# Altium footprint library MF-CAP.PcbLib: 8 footprints
Each footprint in its own frame and in the unit in brackets; x right, y up, seen from the top. Pads: shape width x height; smd on the part's side, far side on the other; paste and mask are expansions set on the pad; w line width, h text height; cw(c..) or ccw(c..) is an arc to the next point about the centre after c.
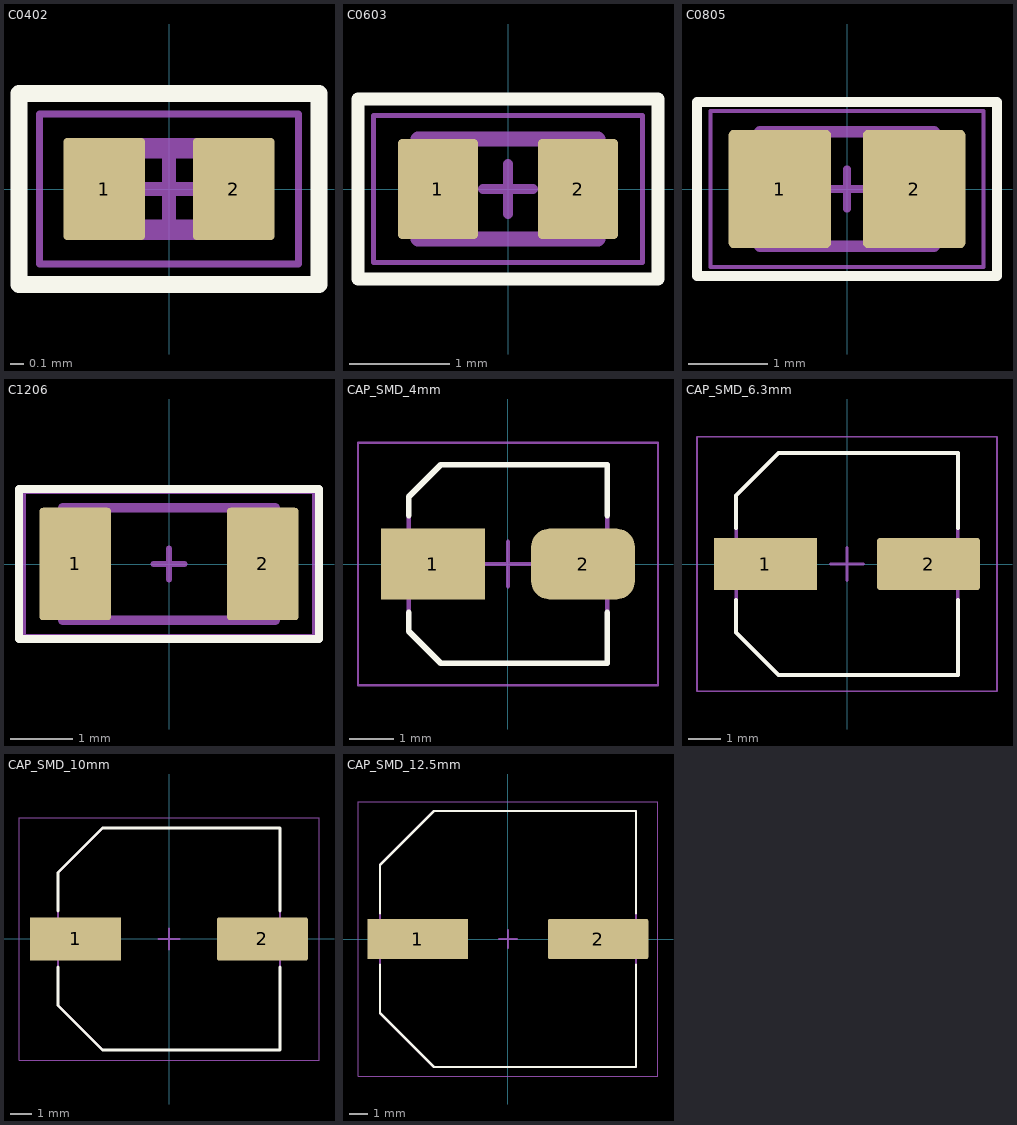
[diagram p0: the footprints below, top view; thin cyan lines are the x and y axes]

## C0402 [mm] "0402 (1005 Metric)"
height 2.87
pads (2):
  rrect10% 0.6x0.75 smd mask+0.05: 1(-0.475,0) 2(0.475,0)
Top Overlay:
  lines w0.127: -1.1,-0.7 -1.1,0.7 1.1,0.7 1.1,-0.7 -1.1,-0.7
Top Assembly:
  lines w0.15: -0.55,-0.3 -0.55,0.3 0.55,0.3 0.55,-0.3 -0.55,-0.3
Top Courtyard:
  lines w0.05: -0.95,-0.55 0.95,-0.55 0.95,0.55 -0.95,0.55 -0.95,-0.55
  lines w0.1: -0.3,0 0.3,0 ; 0,-0.3 0,0.3
3D body: height 0.35, standoff 0, extent -0.55,-0.3 -0.32,0.3
3D body: height 0.35, standoff 0, extent 0.32,-0.3 0.55,0.3
3D body: height 0.35, standoff 0, extent -0.32,-0.3 0.32,0.3

## C0603 [mm] "0603 (1608 Metric)"
pads (2):
  rrect10% 0.8x1 smd mask+0.07: 1(-0.7,0) 2(0.7,0)
Top Overlay:
  lines w0.127: -1.5,-0.9 -1.5,0.9 1.5,0.9 1.5,-0.9 -1.5,-0.9
Top Assembly:
  lines w0.15: -0.9,-0.5 -0.9,0.5 0.9,0.5 0.9,-0.5 -0.9,-0.5
Top Courtyard:
  lines w0.05: -1.346,-0.737 1.346,-0.737 1.346,0.737 -1.346,0.737 -1.346,-0.737
  lines w0.1: -0.25,0 0.25,0 ; 0,-0.25 0,0.25
3D body: height 0.8, standoff 0, extent -0.5,-0.5 0.5,0.5
3D body: height 0.8, standoff 0, extent 0.5,-0.5 0.9,0.5
3D body: height 0.8, standoff 0, extent -0.9,-0.5 -0.5,0.5

## C0805 [mm] "0805 (2012 Metric)"
pads (2):
  rrect10% 1.3x1.5 smd mask+0.07: 1(-0.85,0) 2(0.85,0)
Top Overlay:
  lines w0.127: -1.9,-1.1 -1.9,1.1 1.9,1.1 1.9,-1.1 -1.9,-1.1
Top Assembly:
  lines w0.15: -1.1,-0.725 -1.1,0.725 1.1,0.725 1.1,-0.725 -1.1,-0.725
Top Courtyard:
  lines w0.05: -1.727,-0.991 1.727,-0.991 1.727,0.991 -1.727,0.991 -1.727,-0.991
  lines w0.1: -0.25,0 0.25,0 ; 0,-0.25 0,0.25
3D body: height 0.94, standoff 0, extent 0.5,-0.725 1.1,0.725
3D body: height 0.94, standoff 0, extent -1.1,-0.725 -0.5,0.725
3D body: height 0.94, standoff 0, extent -0.5,-0.725 0.5,0.725

## C1206 [mm] "1206 (3216 Metric)"
pads (2):
  rrect10% 1.15x1.8 smd mask+0.07: 1(-1.5,0) 2(1.5,0)
Top Overlay:
  lines w0.127: -2.4,-1.2 -2.4,1.2 2.4,1.2 2.4,-1.2 -2.4,-1.2
Top Assembly:
  lines w0.15: -1.7,-0.9 -1.7,0.9 1.7,0.9 1.7,-0.9 -1.7,-0.9
Top Courtyard:
  lines w0.05: -2.311,-1.143 -2.311,1.143 2.311,1.143 2.311,-1.143 -2.311,-1.143
  lines w0.1: -0.25,0 0.25,0 ; 0,-0.25 0,0.25
3D body: height 1.4, standoff 0, extent 1.2,-0.9 1.7,0.9
3D body: height 1.4, standoff 0, extent -1.7,-0.9 -1.2,0.9
3D body: height 1.4, standoff 0, extent -1.2,-0.9 1.2,0.9

## CAP_SMD_4mm [mm] "Aluminum Electrolytic Capacitor, Body 4.30x4.30x5.50mm, IPC Medium Density"
height 5.5
pads (2):
  rect 2.35x1.6 smd: 1(-1.7,0)
  rrect50% 2.35x1.6 smd: 2(1.7,0)
Top Overlay:
  lines w0.127: -2.25,-1.1 -2.25,-1.525 -1.525,-2.25 2.25,-2.25 2.25,-1.1 ; -2.25,1.1 -2.25,1.525 -1.525,2.25 2.25,2.25 2.25,1.1
Top Assembly:
  lines w0.1: -2.25,-1.525 -1.525,-2.25 2.25,-2.25 2.25,2.25 -1.525,2.25 -2.25,1.525 -2.25,-1.525
Top Courtyard:
  lines w0.05: -3.4,-2.75 -3.4,2.75 3.4,2.75 3.4,-2.75 -3.4,-2.75
  lines w0.1: -0.5,0 0.5,0 ; 0,-0.5 0,0.5
3D body "CAP_SMD_4mm.step": height 5.5, standoff 0, extent -2.3,-2.25 2.3,2.25

## CAP_SMD_6.3mm [mm] "Aluminum Electrolytic Capacitor, Body 6.60x6.60x8.00mm, IPC Medium Density"
height 8
pads (2):
  rect 3.15x1.6 smd: 1(-2.5,0)
  rrect10% 3.15x1.6 smd: 2(2.5,0)
Top Overlay:
  lines w0.127: -3.4,-1.1 -3.4,-2.1 -2.1,-3.4 3.4,-3.4 3.4,-1.1 ; -3.4,1.1 -3.4,2.1 -2.1,3.4 3.4,3.4 3.4,1.1
Top Assembly:
  lines w0.1: -3.4,-2.1 -3.4,2.1 -2.1,3.4 3.4,3.4 3.4,-3.4 -2.1,-3.4 -3.4,-2.1
Top Courtyard:
  lines w0.05: -4.6,-3.9 4.6,-3.9 4.6,3.9 -4.6,3.9 -4.6,-3.9
  lines w0.1: -0.5,0 0.5,0 ; 0,-0.5 0,0.5
3D body "CAP_SMD_6.3mm.step": height 8, standoff 0, extent -3.5,-3.4 3.5,3.4

## CAP_SMD_10mm [mm] "Aluminum Electrolytic Capacitor, Body 10.30x10.30x10.50mm, IPC Medium Density"
height 10.5
pads (2):
  rect 4.3x2.05 smd: 1(-4.425,0)
  rrect10% 4.3x2.05 smd: 2(4.425,0)
Top Overlay:
  lines w0.127: -5.25,-1.325 -5.25,-3.138 -3.137,-5.25 5.25,-5.25 5.25,-1.325 ; -5.25,1.325 -5.25,3.137 -3.137,5.25 5.25,5.25 5.25,1.325
Top Assembly:
  lines w0.1: -5.25,-3.138 -5.25,3.137 -3.137,5.25 5.25,5.25 5.25,-5.25 -3.137,-5.25 -5.25,-3.138
Top Courtyard:
  lines w0.05: -7.1,-5.75 7.1,-5.75 7.1,5.75 -7.1,5.75 -7.1,-5.75
  lines w0.1: -0.5,0 0.5,0 ; 0,-0.5 0,0.5
3D body "CAPAE116103X105N.step": height 10.5, standoff 0, extent -5.8,-5.25 5.8,5.25

## CAP_SMD_12.5mm [mm] "Aluminum Electrolytic Capacitor, Body 13.50x13.50x14.00mm, IPC Medium Density"
height 14
pads (2):
  rect 5.5x2.2 smd: 1(-4.925,0)
  rrect10% 5.5x2.2 smd: 2(4.925,0)
Top Overlay:
  lines w0.127: -7,-1.4 -7,-4.05 -4.05,-7 7,-7 7,-1.4 ; -7,1.4 -7,4.05 -4.05,7 7,7 7,1.4
Top Assembly:
  lines w0.1: -7,-4.05 -7,4.05 -4.05,7 7,7 7,-7 -4.05,-7 -7,-4.05
Top Courtyard:
  lines w0.05: -8.2,-7.5 8.2,-7.5 8.2,7.5 -8.2,7.5 -8.2,-7.5
  lines w0.1: -0.5,0 0.5,0 ; 0,-0.5 0,0.5
3D body "CAP_SMD_12.5mm.step": height 14, standoff 0, extent -7,-7 7,7